# EAGLE library part TPS2001C_DGN_8 (library Texas Instruments)
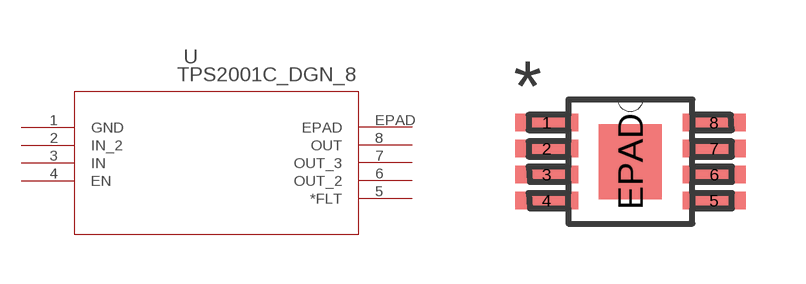
[diagram p31: symbol with the pads of DGN8_1P89X1P57; footprint DGN8_1P89X1P57]

Designator prefix U

## TPS2001C_DGN_8 (DATASHEETURL: http://www.ti.com/lit/gpn/TPS2001C; DESCRIPTION: Single Channel, Current-Limited USB Power Distribution Switch; FAMILY_NAME: USB POWER SWITCH; GENERIC_PART_NUMBER: TPS2001C; INDUSTRY_STD_PKG_TYPE: MSOP-PowerPAD; MANUFACTURER: Texas Instruments; MANUFACTURER_PART_NUMBER: tps2001c_dgn_8; PACKAGE_DESIGNATOR: DGN; PIN_COUNT: 8; VENDOR: Texas Instruments)  [DGN8_1P89X1P57]
1  GND  pwr
2  IN_2  in
3  IN  in
4  EN  pas
5  *FLT  pas
6  OUT_2  out
7  OUT_3  out
8  OUT  out
EPAD  EPAD  pas

## Footprint DGN8_1P89X1P57 (pad centres in mm)
smd 1.575 x 0.432: 1 -2.095,0.975; 2 -2.095,0.325; 3 -2.095,-0.325; 4 -2.095,-0.975; 5 2.095,-0.975; 6 2.095,-0.325; 7 2.095,0.325; 8 2.095,0.975
smd 1.575 x 1.88: EPAD 0,0